# EAGLE library part ESP32-C3-WROOM-02-N4 (library ESP32-C3-WROOM-02-N4)
WiFi Modules (802.11) (Engineering Samples) SMD module, ESP32-C3, 4MB SPI flash, PCB antenna, -40 C +85 C Source: Datasheet <https://www.mouser.ch/datasheet/2/891/Espressif_ESP32_C3_WROOM_02-2006871.pdf>
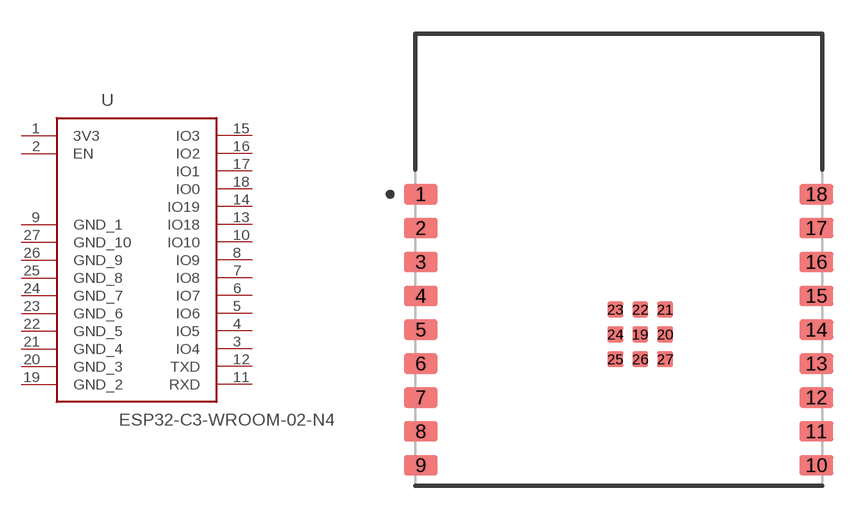
[diagram p0: symbol with the pads of ESP32C3WROOM02N4; footprint ESP32C3WROOM02N4]

Designator prefix U

## ESP32-C3-WROOM-02-N4 (DESCRIPTION: WiFi Modules (802.11) (Engineering Samples) SMD module, ESP32-C3, 4MB SPI flash, PCB antenna, -40 C +85 C; HEIGHT: 3.35mm; MANUFACTURER_NAME: Espressif Systems; MANUFACTURER_PART_NUMBER: ESP32-C3-WROOM-02-N4; MOUSER_PART_NUMBER: 356-ESP32C3WROOM02N4; MOUSER_PRICE-STOCK: https://www.mouser.co.uk/ProductDetail/Espressif-Systems/ESP32-C3-WROOM-02-N4?qs=stqOd1AaK7%2FqjTZKEOgfUg%3D%3D)  [ESP32C3WROOM02N4]
1  3V3  pwr
2  EN
3  IO4
4  IO5
5  IO6
6  IO7
7  IO8
8  IO9
9  GND_1  pwr
10  IO10
11  RXD
12  TXD
13  IO18
14  IO19
15  IO3
16  IO2
17  IO1
18  IO0
19  GND_2  pwr
20  GND_3  pwr
21  GND_4  pwr
22  GND_5  pwr
23  GND_6  pwr
24  GND_7  pwr
25  GND_8  pwr
26  GND_9  pwr
27  GND_10  pwr

## Footprint ESP32C3WROOM02N4 (pad centres in mm)
ESP32-C3-WROOM-02-N4-1
smd 1.5 x 0.9: 1 -9.71,6.2; 2 -9.71,4.7; 3 -9.71,3.2; 4 -9.71,1.7; 5 -9.71,0.2; 6 -9.71,-1.3; 7 -9.71,-2.8; 8 -9.71,-4.3; 9 -9.71,-5.8; 10 7.79,-5.8; 11 7.79,-4.3; 12 7.79,-2.8; 13 7.79,-1.3; 14 7.79,0.2; 15 7.79,1.7; 16 7.79,3.2; 17 7.79,4.7; 18 7.79,6.2
smd 0.7 x 0.7: 19 0,0; 20 1.1,0; 21 1.1,1.1; 22 0,1.1; 23 -1.1,1.1; 24 -1.1,0; 25 -1.1,-1.1; 26 0,-1.1; 27 1.1,-1.1